# EAGLE library part TSL2561 (library regn)
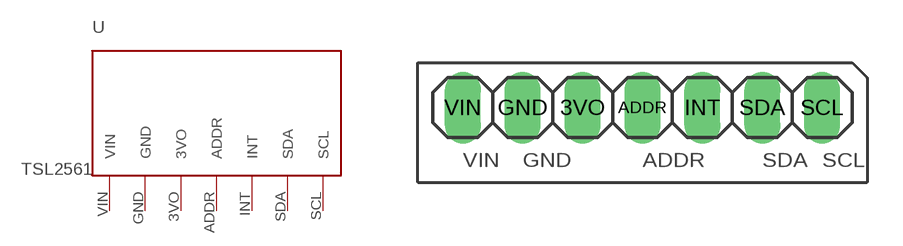
[diagram p0: symbol with the pads of TSL2561; footprint TSL2561]

Designator prefix -

## TSL2561  [TSL2561]
3VO  3VO
ADDR  ADDR
GND  GND
INT  INT
SCL  SCL
SDA  SDA
VIN  VIN  pwr

## Footprint TSL2561 (pad centres in mm)
PIN HEADER
drill 1.016 long: 3VO -2.54,0; ADDR 0,0; GND -5.08,0; INT 2.54,0; SCL 7.62,0; SDA 5.08,0; VIN -7.62,0